# Altium footprint library BW2099_SoM.PcbLib: 2 footprints
Each footprint in its own frame and in the unit in brackets; x right, y up, seen from the top. Pads: shape width x height; smd on the part's side, far side on the other; paste and mask are expansions set on the pad; w line width, h text height; cw(c..) or ccw(c..) is an arc to the next point about the centre after c.
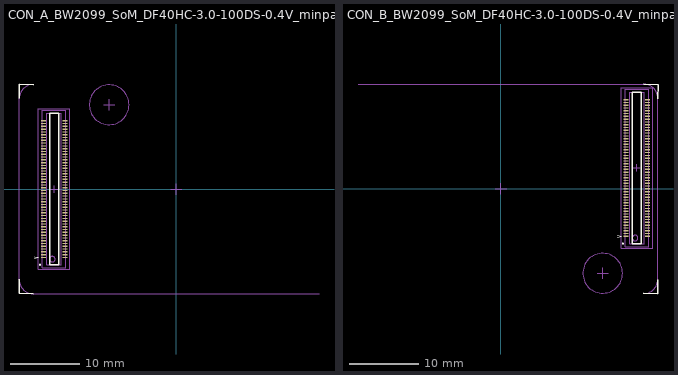
[diagram p0: the footprints below, top view; thin cyan lines are the x and y axes]

## CON_A_BW2099_SoM_DF40HC-3.0-100DS-0.4V_minpad [mm] "3.0MM MATED HEIGHT CONN HDR 100POS 0.4MM SMD GOLD"
height 2.9
pads (100):
  rect 0.7x0.18 smd: 1(-19.04,-9.8) 2(-15.96,-9.8) 3(-19.04,-9.4) 4(-15.96,-9.4) 5(-19.04,-9) 6(-15.96,-9) 7(-19.04,-8.6) 8(-15.96,-8.6) 9(-19.04,-8.2) 10(-15.96,-8.2) 11(-19.04,-7.8) 12(-15.96,-7.8) 13(-19.04,-7.4) 14(-15.96,-7.4) 15(-19.04,-7) 16(-15.96,-7) 17(-19.04,-6.6) 18(-15.96,-6.6) 19(-19.04,-6.2) 20(-15.96,-6.2) 21(-19.04,-5.8) 22(-15.96,-5.8) 23(-19.04,-5.4) 24(-15.96,-5.4) 25(-19.04,-5) 26(-15.96,-5) 27(-19.04,-4.6) 28(-15.96,-4.6) 29(-19.04,-4.2) 30(-15.96,-4.2) 31(-19.04,-3.8) 32(-15.96,-3.8) 33(-19.04,-3.4) 34(-15.96,-3.4) 35(-19.04,-3) 36(-15.96,-3) 37(-19.04,-2.6) 38(-15.96,-2.6) 39(-19.04,-2.2) 40(-15.96,-2.2) 41(-19.04,-1.8) 42(-15.96,-1.8) 43(-19.04,-1.4) 44(-15.96,-1.4) 45(-19.04,-1) 46(-15.96,-1) 47(-19.04,-0.6) 48(-15.96,-0.6) 49(-19.04,-0.2) 50(-15.96,-0.2) 51(-19.04,0.2) 52(-15.96,0.2) 53(-19.04,0.6) 54(-15.96,0.6) 55(-19.04,1) 56(-15.96,1) 57(-19.04,1.4) 58(-15.96,1.4) 59(-19.04,1.8) 60(-15.96,1.8) 61(-19.04,2.2) 62(-15.96,2.2) 63(-19.04,2.6) 64(-15.96,2.6) 65(-19.04,3) 66(-15.96,3) 67(-19.04,3.4) 68(-15.96,3.4) 69(-19.04,3.8) 70(-15.96,3.8) 71(-19.04,4.2) 72(-15.96,4.2) 73(-19.04,4.6) 74(-15.96,4.6) 75(-19.04,5) 76(-15.96,5) 77(-19.04,5.4) 78(-15.96,5.4) 79(-19.04,5.8) 80(-15.96,5.8) 81(-19.04,6.2) 82(-15.96,6.2) 83(-19.04,6.6) 84(-15.96,6.6) 85(-19.04,7) 86(-15.96,7) 87(-19.04,7.4) 88(-15.96,7.4) 89(-19.04,7.8) 90(-15.96,7.8) 91(-19.04,8.2) 92(-15.96,8.2) 93(-19.04,8.6) 94(-15.96,8.6) 95(-19.04,9) 96(-15.96,9) 97(-19.04,9.4) 98(-15.96,9.4) 99(-19.04,9.8) 100(-15.96,9.8)
Top Overlay:
  circle w0.254: c-19.5,-10.85 r0.025
  lines w0.102: -20.25,-9.915 -19.75,-9.8 -20.25,-9.685
  lines w0.2: -22.5,-12.932 -22.534,-14.966 -20.5,-15 ; -22.5,13.001 -22.466,15.035 -20.433,15.001 ; -18.15,-10.85 -18.15,10.85 -16.85,10.85 -16.85,-10.85 -18.15,-10.85
Top Assembly:
  circle w0.1: c-17.75,-10.05 r0.4
  circle w0.1: c-9.6,12.1 r2.85
  lines w0.1: -20.5,-15 20.497,-15 ; -20.5,-14.994 cw(c-20.5,-12.994) -22.5,-12.994 -22.5,13.001 cw(c-20.5,13.001) -20.5,15.001 ; -10.4,12.1 -9.6,12.1 ; -9.6,11.3 -9.6,12.1 ; -9.6,12.9 -9.6,12.1 ; -8.8,12.1 -9.6,12.1 ; -0.8,0 0,0 ; 0,-0.8 0,0 ; 0,0.8 0,0 ; 0.8,0 0,0 ; -18.55,-10.85 -16.45,-10.85 -16.45,10.85 -18.55,10.85 -18.55,-10.85
  text "'.Designator'" at -17.5,0 h1
  text "CONNECTOR A" at -21.416,0.6 h1.52
Top Courtyard:
  lines w0.05: -18,0 -17,0 ; -17.5,-0.5 -17.5,0.5 ; -19.75,-11.5 -15.25,-11.5 -15.25,11.5 -19.75,11.5 -19.75,-11.5
Top Component Outline (Mech31):
  circle w0.1: c-9.6,12.1 r2.85
  lines w0.1: -19.19,-11.295 -19.19,11.305 -15.81,11.305 -15.81,-11.295 -19.19,-11.295
3D body "DF40HC(3.0)-100DS-0.4V.stp": height 2.85, standoff -0.05, extent -19.19,-11.295 -15.81,11.305

## CON_B_BW2099_SoM_DF40HC-3.0-100DS-0.4V_minpad [mm] "3.0MM MATED HEIGHT CONN HDR 100POS 0.4MM SMD GOLD"
height 2.9
pads (100):
  rect 0.7x0.18 smd: 1(17.96,-6.8) 2(21.04,-6.8) 3(17.96,-6.4) 4(21.04,-6.4) 5(17.96,-6) 6(21.04,-6) 7(17.96,-5.6) 8(21.04,-5.6) 9(17.96,-5.2) 10(21.04,-5.2) 11(17.96,-4.8) 12(21.04,-4.8) 13(17.96,-4.4) 14(21.04,-4.4) 15(17.96,-4) 16(21.04,-4) 17(17.96,-3.6) 18(21.04,-3.6) 19(17.96,-3.2) 20(21.04,-3.2) 21(17.96,-2.8) 22(21.04,-2.8) 23(17.96,-2.4) 24(21.04,-2.4) 25(17.96,-2) 26(21.04,-2) 27(17.96,-1.6) 28(21.04,-1.6) 29(17.96,-1.2) 30(21.04,-1.2) 31(17.96,-0.8) 32(21.04,-0.8) 33(17.96,-0.4) 34(21.04,-0.4) 35(17.96,0) 36(21.04,0) 37(17.96,0.4) 38(21.04,0.4) 39(17.96,0.8) 40(21.04,0.8) 41(17.96,1.2) 42(21.04,1.2) 43(17.96,1.6) 44(21.04,1.6) 45(17.96,2) 46(21.04,2) 47(17.96,2.4) 48(21.04,2.4) 49(17.96,2.8) 50(21.04,2.8) 51(17.96,3.2) 52(21.04,3.2) 53(17.96,3.6) 54(21.04,3.6) 55(17.96,4) 56(21.04,4) 57(17.96,4.4) 58(21.04,4.4) 59(17.96,4.8) 60(21.04,4.8) 61(17.96,5.2) 62(21.04,5.2) 63(17.96,5.6) 64(21.04,5.6) 65(17.96,6) 66(21.04,6) 67(17.96,6.4) 68(21.04,6.4) 69(17.96,6.8) 70(21.04,6.8) 71(17.96,7.2) 72(21.04,7.2) 73(17.96,7.6) 74(21.04,7.6) 75(17.96,8) 76(21.04,8) 77(17.96,8.4) 78(21.04,8.4) 79(17.96,8.8) 80(21.04,8.8) 81(17.96,9.2) 82(21.04,9.2) 83(17.96,9.6) 84(21.04,9.6) 85(17.96,10) 86(21.04,10) 87(17.96,10.4) 88(21.04,10.4) 89(17.96,10.8) 90(21.04,10.8) 91(17.96,11.2) 92(21.04,11.2) 93(17.96,11.6) 94(21.04,11.6) 95(17.96,12) 96(21.04,12) 97(17.96,12.4) 98(21.04,12.4) 99(17.96,12.8) 100(21.04,12.8)
Top Overlay:
  circle w0.254: c17.5,-7.85 r0.025
  lines w0.102: 16.75,-6.915 17.25,-6.8 16.75,-6.685
  lines w0.2: 20.433,-15.002 22.466,-15.036 22.5,-13.002 ; 20.493,15 22.527,14.966 22.493,12.933 ; 18.85,-7.85 20.15,-7.85 20.15,13.85 18.85,13.85 18.85,-7.85
Top Assembly:
  circle w0.1: c14.6,-12.1 r2.85
  circle w0.1: c19.25,-7.05 r0.4
  lines w0.1: -20.5,15 20.493,15 cw(c20.493,13) 22.493,13 ; -0.8,0 0,0 ; 0,-0.8 0,0 ; 0,0.8 0,0 ; 0.8,0 0,0 ; 13.8,-12.1 14.6,-12.1 ; 14.6,-12.9 14.6,-12.1 ; 14.6,-11.3 14.6,-12.1 ; 15.4,-12.1 14.6,-12.1 ; 20.497,-15.002 ccw(c20.497,-13.002) 22.497,-13.002 ; 22.5,-13.002 22.5,13 ; 18.45,-7.85 18.45,13.85 20.55,13.85 20.55,-7.85 18.45,-7.85
  text "CONNECTOR B" at 21.406,8 h1.52
  text "BW2099 Module / <1mm clearance" at 4.2,9.9 h2
  text "'.Designator'" at 19.5,3 h1
Top Courtyard:
  lines w0.05: 19,3 20,3 ; 19.5,2.5 19.5,3.5 ; 17.25,-8.5 17.25,14.5 21.75,14.5 21.75,-8.5 17.25,-8.5
Top Component Outline (Mech31):
  circle w0.1: c14.6,-12.1 r2.85
  lines w0.1: 17.81,-8.295 21.19,-8.295 21.19,14.305 17.81,14.305 17.81,-8.295
3D body "DF40HC(3.0)-100DS-0.4V.stp": height 2.85, standoff -0.05, extent 17.81,-8.295 21.19,14.305